# Altium footprint library Capacitors.PcbLib: 22 footprints (part 1 of 2)
Each footprint in its own frame and in the unit in brackets; x right, y up, seen from the top. Pads: shape width x height; smd on the part's side, far side on the other; paste and mask are expansions set on the pad; w line width, h text height; cw(c..) or ccw(c..) is an arc to the next point about the centre after c.
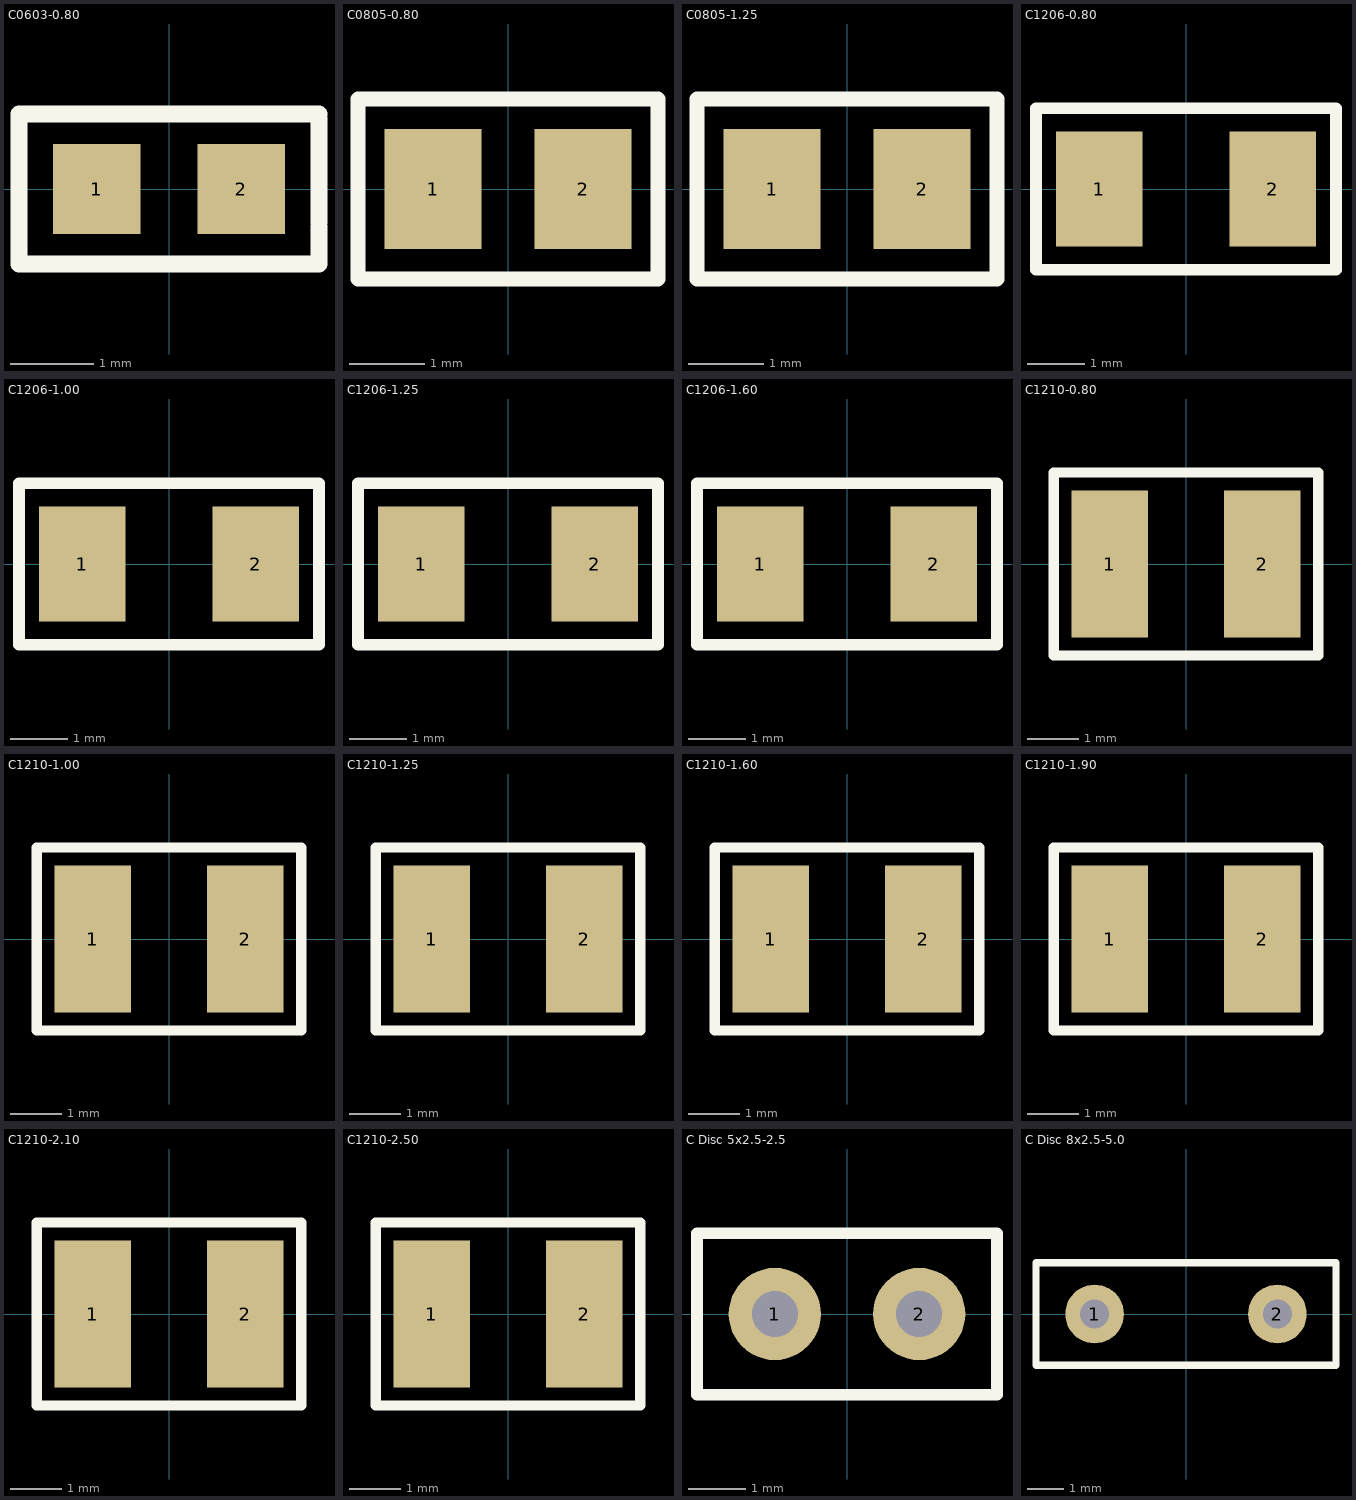
[diagram p0: the footprints below, top view; thin cyan lines are the x and y axes]

## C0603-0.80 [mm] "Capacitor Chip 0603 Height 0.80mm"
height 0.8
pads (2):
  rect 1.05x1.08 smd: 1(-0.865,0) 2(0.865,0)
Top Overlay:
  lines w0.2: 1.8,-0.45 1.8,-0.9 -1.8,-0.9 -1.8,0.9 1.8,0.9 ; 1.8,-0.4 1.8,0.5 ; 1.8,0.4 1.8,0.85
3D body: height 0.81, standoff 0, extent -0.8,-0.41 0.8,0.41

## C0805-0.80 [mm] "Capacitor Chip 0805 Height 0.80"
height 0.8
pads (2):
  rect 1.3x1.6 smd: 1(-1,0) 2(1,0)
Top Overlay:
  lines w0.2: -2,-0.7 -2,1.2 2,1.2 2,-1.2 -2,-1.2 -2,-0.65
3D body: height 0.81, standoff 0, extent -0.9,-0.635 0.9,0.635

## C0805-1.25 [mm] "Capacitor Chip 0805 Height 1.25mm"
height 1.25
pads (2):
  rect 1.3x1.6 smd: 1(-1,0) 2(1,0)
Top Overlay:
  lines w0.2: -2,-0.7 -2,1.2 2,1.2 2,-1.2 -2,-1.2 -2,-0.65
3D body: height 1.26, standoff -0.01, extent -0.9,-0.635 0.9,0.635

## C1206-0.80 [mm] "Capacitor Chip 1206 Height 0.80mm"
height 0.8
pads (2):
  rect 1.5x2 smd: 1(-1.5,0) 2(1.5,0)
Top Overlay:
  lines w0.2: -2.6,-1.4 -0.5,-1.4 0.9,-1.4 1.3,-1.4 2.6,-1.4 2.6,1.4 -2.6,1.4 -2.6,0.2 -2.6,-1.4
3D body: height 0.81, standoff 0, extent -1.6,-0.81 1.6,0.81

## C1206-1.00 [mm] "Capacitor Chip 1206 Height 1.00mm"
height 1
pads (2):
  rect 1.5x2 smd: 1(-1.5,0) 2(1.5,0)
Top Overlay:
  lines w0.2: -2.6,-1.4 -2.6,0.2 -2.6,1.4 2.6,1.4 2.6,-1.4 1.3,-1.4 0.9,-1.4 -0.5,-1.4 -2.6,-1.4
3D body: height 1.01, standoff 0, extent -1.6,-0.81 1.6,0.81

## C1206-1.25 [mm] "Capacitor Chip 1206 Height 1.25mm"
height 1.25
pads (2):
  rect 1.5x2 smd: 1(-1.5,0) 2(1.5,0)
Top Overlay:
  lines w0.2: -2.6,-1.4 -2.6,0.2 -2.6,1.4 2.6,1.4 2.6,-1.4 1.3,-1.4 0.9,-1.4 -0.5,-1.4 -2.6,-1.4
3D body: height 1.26, standoff -0.01, extent -1.6,-0.81 1.6,0.81

## C1206-1.60 [mm] "Capacitor Chip 1206 Height 1.60mm"
height 1.6
pads (2):
  rect 1.5x2 smd: 1(-1.5,0) 2(1.5,0)
Top Overlay:
  lines w0.2: -2.6,-1.4 -0.5,-1.4 0.9,-1.4 1.3,-1.4 2.6,-1.4 2.6,1.4 -2.6,1.4 -2.6,0.2 -2.6,-1.4
3D body: height 1.62, standoff -0.01, extent -1.6,-0.81 1.6,0.81

## C1210-0.80 [mm] "Capacitor Chip 1210 Height 0.80mm"
height 0.8
pads (2):
  rect 1.5x2.9 smd: 1(-1.5,0) 2(1.5,0)
Top Overlay:
  lines w0.2: -2.6,-1.8 -2.6,0 -2.6,1.8 2.6,1.8 2.6,-1.8 -2.6,-1.8
3D body: height 0.81, standoff 0, extent -1.6,-1.26 1.6,1.26

## C1210-1.00 [mm] "Capacitor Chip 1210 Height 1.00mm"
height 1
pads (2):
  rect 1.5x2.9 smd: 1(-1.5,0) 2(1.5,0)
Top Overlay:
  lines w0.2: -2.6,-1.8 2.6,-1.8 2.6,1.8 -2.6,1.8 -2.6,0 -2.6,-1.8
3D body: height 1.01, standoff 0, extent -1.6,-1.26 1.6,1.26

## C1210-1.25 [mm] "Capacitor Chip 1210 Height 1.25mm"
height 1.25
pads (2):
  rect 1.5x2.9 smd: 1(-1.5,0) 2(1.5,0)
Top Overlay:
  lines w0.2: -2.6,-1.8 2.6,-1.8 2.6,1.8 -2.6,1.8 -2.6,0 -2.6,-1.8
3D body: height 1.26, standoff -0.01, extent -1.6,-1.26 1.6,1.26

## C1210-1.60 [mm] "Capacitor Chip 1210 Height 1.60mm"
height 1.6
pads (2):
  rect 1.5x2.9 smd: 1(-1.5,0) 2(1.5,0)
Top Overlay:
  lines w0.2: -2.6,-1.8 -2.6,0 -2.6,1.8 2.6,1.8 2.6,-1.8 -2.6,-1.8
3D body: height 1.62, standoff -0.01, extent -1.6,-1.26 1.6,1.26

## C1210-1.90 [mm] "Capacitor Chip 1210 Height 1.90mm"
height 1.9
pads (2):
  rect 1.5x2.9 smd: 1(-1.5,0) 2(1.5,0)
Top Overlay:
  lines w0.2: -2.6,-1.8 -2.6,0 -2.6,1.8 2.6,1.8 2.6,-1.8 -2.6,-1.8
3D body: height 1.91, standoff -0.01, extent -1.6,-1.26 1.6,1.26

## C1210-2.10 [mm] "Capacitor Chip 1210 Height 2.10mm"
height 2.1
pads (2):
  rect 1.5x2.9 smd: 1(-1.5,0) 2(1.5,0)
Top Overlay:
  lines w0.2: -2.6,-1.8 2.6,-1.8 2.6,1.8 -2.6,1.8 -2.6,0 -2.6,-1.8
3D body: height 2.11, standoff -0.01, extent -1.6,-1.26 1.6,1.26

## C1210-2.50 [mm] "Capacitor Chip 1210 Height 2.50mm"
height 2.5
pads (2):
  rect 1.5x2.9 smd: 1(-1.5,0) 2(1.5,0)
Top Overlay:
  lines w0.2: -2.6,-1.8 -2.6,0 -2.6,1.8 2.6,1.8 2.6,-1.8 -2.6,-1.8
3D body: height 2.51, standoff -0.01, extent -1.6,-1.26 1.6,1.26

## C Disc 5x2.5-2.5 [mm] "C Disc 5x2.5-2.5"
height 5
pads (2):
  round 1.6 hole 0.8: 1(-1.25,0) 2(1.25,0)
Top Overlay:
  lines w0.2: -2.6,-1.4 2.6,-1.4 2.6,1.4 -2.6,1.4 -2.6,-1.4
3D body: height 5.05, standoff -2.45, extent -2.495,-1.28 2.488,1.281

## C Disc 8x2.5-5.0 [mm] "C Disc 5x2.5-5.0"
height 11
pads (2):
  round 1.6 hole 0.8: 1(-2.5,0) 2(2.5,0)
Top Overlay:
  lines w0.2: -4.1,-1.4 4.1,-1.4 4.1,1.4 -4.1,1.4 -4.1,-1.4
3D body: height 8.05, standoff -2.45, extent -3.993,-1.287 3.987,1.287